# EAGLE library part ESP-07S (library IC-ESP)
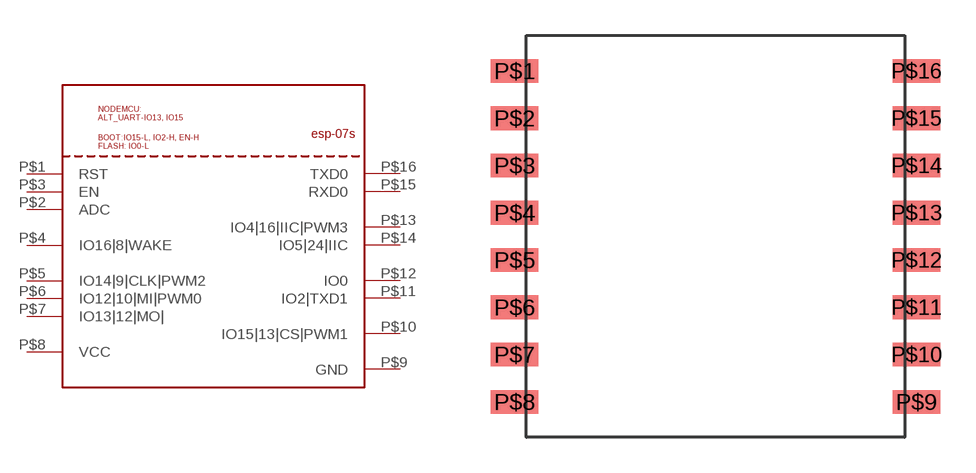
[diagram p21: symbol with the pads of ESP-07S; footprint ESP-07S]

Designator prefix U

## ESP-07S  [ESP-07S]
P$1  RST
P$2  ADC
P$3  EN
P$4  IO16|8|WAKE
P$5  IO14|9|CLK|PWM2
P$6  IO12|10|MI|PWM0
P$7  IO13|12|MO|
P$8  VCC
P$9  GND
P$10  IO15|13|CS|PWM1
P$11  IO2|TXD1
P$12  IO0
P$13  IO4|16|IIC|PWM3
P$14  IO5|24|IIC
P$15  RXD0
P$16  TXD0

## Footprint ESP-07S (pad centres in mm)
smd 2 x 1: P$1 -8.5,7; P$2 -8.5,5; P$3 -8.5,3; P$4 -8.5,1; P$5 -8.5,-1; P$6 -8.5,-3; P$7 -8.5,-5; P$8 -8.5,-7; P$9 8.5,-7; P$10 8.5,-5; P$11 8.5,-3; P$12 8.5,-1; P$13 8.5,1; P$14 8.5,3; P$15 8.5,5; P$16 8.5,7